# EAGLE library part FS6370-01G-XTD (library ON Semiconductor_By_element14_Batch_1)
EEPROM Programmable 3-PLL Clock Generator IC
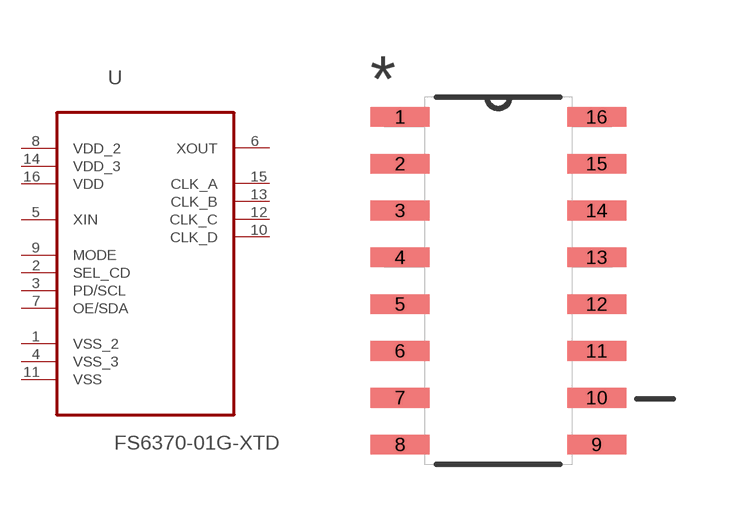
[diagram p24: symbol with the pads of SOIC127P600X173-16N; footprint SOIC127P600X173-16N]

Designator prefix U

## FS6370-01G-XTD (MPN: FS6370-01G-XTD; OC_FARNELL: -; OC_NEWARK: 03P0841; PACKAGE: SOIC-16; SUPPLIER: ON SEMICONDUCTOR)  [SOIC127P600X173-16N]
1  VSS_2  pas
2  SEL_CD  in
3  PD/SCL  in
4  VSS_3  pas
5  XIN  in
6  XOUT  out
7  OE/SDA
8  VDD_2  pwr
9  MODE  in
10  CLK_D  out
11  VSS  pas
12  CLK_C  out
13  CLK_B  out
14  VDD_3  pwr
15  CLK_A  out
16  VDD  pwr

## Footprint SOIC127P600X173-16N (pad centres in mm)
smd 1.6 x 0.533: 1 -2.667,4.445; 2 -2.667,3.175; 3 -2.667,1.905; 4 -2.667,0.635; 5 -2.667,-0.635; 6 -2.667,-1.905; 7 -2.667,-3.175; 8 -2.667,-4.445; 9 2.667,-4.445; 10 2.667,-3.175; 11 2.667,-1.905; 12 2.667,-0.635; 13 2.667,0.635; 14 2.667,1.905; 15 2.667,3.175; 16 2.667,4.445